# EAGLE library part XC9572XL_TQFP100 (library xilinxx)
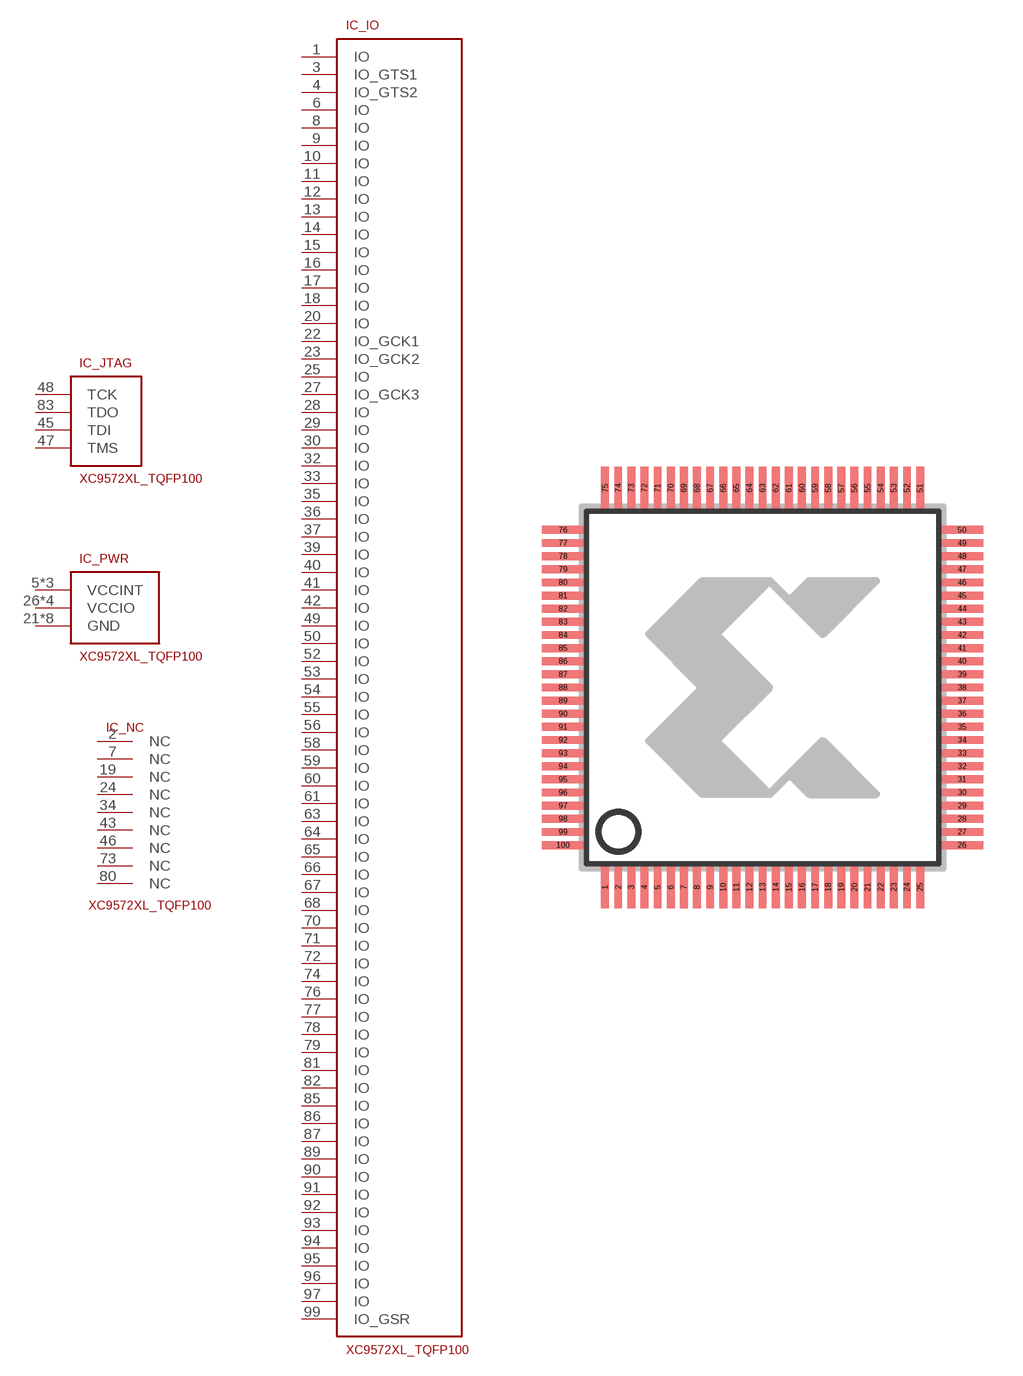
[diagram p0: symbol with the pads of TQ100; footprint TQ100]

Designator prefix IC; gates _IO=XC9572XL_IO _JTAG=XC9572XL_JTAG _NC=XC9572XL_NC _PWR=XC9572XL_POWER

## XC9572XL_TQFP100  [TQ100]
1  _IO:IO
2  _NC:NC  nc
3  _IO:IO_GTS1
4  _IO:IO_GTS2
5  _PWR:VCCINT  in
6  _IO:IO
7  _NC:NC  nc
8  _IO:IO
9  _IO:IO
10  _IO:IO
11  _IO:IO
12  _IO:IO
13  _IO:IO
14  _IO:IO
15  _IO:IO
16  _IO:IO
17  _IO:IO
18  _IO:IO
19  _NC:NC  nc
20  _IO:IO
21  _PWR:GND  in
22  _IO:IO_GCK1
23  _IO:IO_GCK2
24  _NC:NC  nc
25  _IO:IO
26  _PWR:VCCIO  in
27  _IO:IO_GCK3
28  _IO:IO
29  _IO:IO
30  _IO:IO
31  _PWR:GND  in
32  _IO:IO
33  _IO:IO
34  _NC:NC  nc
35  _IO:IO
36  _IO:IO
37  _IO:IO
38  _PWR:VCCIO  in
39  _IO:IO
40  _IO:IO
41  _IO:IO
42  _IO:IO
43  _NC:NC  nc
44  _PWR:GND  in
45  _JTAG:TDI
46  _NC:NC  nc
47  _JTAG:TMS
48  _JTAG:TCK
49  _IO:IO
50  _IO:IO
51  _PWR:VCCIO  in
52  _IO:IO
53  _IO:IO
54  _IO:IO
55  _IO:IO
56  _IO:IO
57  _PWR:VCCINT  in
58  _IO:IO
59  _IO:IO
60  _IO:IO
61  _IO:IO
62  _PWR:GND  in
63  _IO:IO
64  _IO:IO
65  _IO:IO
66  _IO:IO
67  _IO:IO
68  _IO:IO
69  _PWR:GND  in
70  _IO:IO
71  _IO:IO
72  _IO:IO
73  _NC:NC  nc
74  _IO:IO
75  _PWR:GND  in
76  _IO:IO
77  _IO:IO
78  _IO:IO
79  _IO:IO
80  _NC:NC  nc
81  _IO:IO
82  _IO:IO
83  _JTAG:TDO
84  _PWR:GND  in
85  _IO:IO
86  _IO:IO
87  _IO:IO
88  _PWR:VCCIO  in
89  _IO:IO
90  _IO:IO
91  _IO:IO
92  _IO:IO
93  _IO:IO
94  _IO:IO
95  _IO:IO
96  _IO:IO
97  _IO:IO
98  _PWR:VCCINT  in
99  _IO:IO_GSR
100  _PWR:GND  in

## Footprint TQ100 (pad centres in mm)
Thin Quad Flat Pack
smd 0.3 x 1.6: 1 -6,-7.6; 2 -5.5,-7.6; 3 -5,-7.6; 4 -4.5,-7.6; 5 -4,-7.6; 6 -3.5,-7.6; 7 -3,-7.6; 8 -2.5,-7.6; 9 -2,-7.6; 10 -1.5,-7.6; 11 -1,-7.6; 12 -0.5,-7.6; 13 0,-7.6; 14 0.5,-7.6; 15 1,-7.6; 16 1.5,-7.6; 17 2,-7.6; 18 2.5,-7.6; 19 3,-7.6; 20 3.5,-7.6; 21 4,-7.6; 22 4.5,-7.6; 23 5,-7.6; 24 5.5,-7.6; 25 6,-7.6; 51 6,7.6; 52 5.5,7.6; 53 5,7.6; 54 4.5,7.6; 55 4,7.6; 56 3.5,7.6; 57 3,7.6; 58 2.5,7.6; 59 2,7.6; 60 1.5,7.6; 61 1,7.6; 62 0.5,7.6; 63 0,7.6; 64 -0.5,7.6; 65 -1,7.6; 66 -1.5,7.6; 67 -2,7.6; 68 -2.5,7.6; 69 -3,7.6; 70 -3.5,7.6; 71 -4,7.6; 72 -4.5,7.6; 73 -5,7.6; 74 -5.5,7.6; 75 -6,7.6
smd 1.6 x 0.3: 26 7.6,-6; 27 7.6,-5.5; 28 7.6,-5; 29 7.6,-4.5; 30 7.6,-4; 31 7.6,-3.5; 32 7.6,-3; 33 7.6,-2.5; 34 7.6,-2; 35 7.6,-1.5; 36 7.6,-1; 37 7.6,-0.5; 38 7.6,0; 39 7.6,0.5; 40 7.6,1; 41 7.6,1.5; 42 7.6,2; 43 7.6,2.5; 44 7.6,3; 45 7.6,3.5; 46 7.6,4; 47 7.6,4.5; 48 7.6,5; 49 7.6,5.5; 50 7.6,6; 76 -7.6,6; 77 -7.6,5.5; 78 -7.6,5; 79 -7.6,4.5; 80 -7.6,4; 81 -7.6,3.5; 82 -7.6,3; 83 -7.6,2.5; 84 -7.6,2; 85 -7.6,1.5; 86 -7.6,1; 87 -7.6,0.5; 88 -7.6,0; 89 -7.6,-0.5; 90 -7.6,-1; 91 -7.6,-1.5; 92 -7.6,-2; 93 -7.6,-2.5; 94 -7.6,-3; 95 -7.6,-3.5; 96 -7.6,-4; 97 -7.6,-4.5; 98 -7.6,-5; 99 -7.6,-5.5; 100 -7.6,-6